# EAGLE library part MC14071BCP (library User-Submitted)
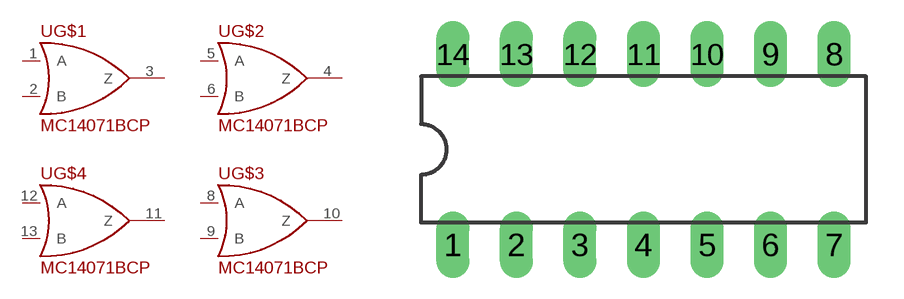
[diagram p26: symbol with the pads of DIL14; footprint DIL14]

Designator prefix -; gates G$1=MC14071B G$2=MC14071B G$3=MC14071B G$4=MC14071B

## MC14071BCP  [DIL14]
1  G$1:A  in
2  G$1:B  in
3  G$1:Z  out
4  G$2:Z  out
5  G$2:A  in
6  G$2:B  in
8  G$3:A  in
9  G$3:B  in
10  G$3:Z  out
11  G$4:Z  out
12  G$4:A  in
13  G$4:B  in

## Footprint DIL14 (pad centres in mm)
Dual In Line Package
drill 0.813 long: 1 -7.62,-3.81; 2 -5.08,-3.81; 3 -2.54,-3.81; 4 0,-3.81; 5 2.54,-3.81; 6 5.08,-3.81; 7 7.62,-3.81; 8 7.62,3.81; 9 5.08,3.81; 10 2.54,3.81; 11 0,3.81; 12 -2.54,3.81; 13 -5.08,3.81; 14 -7.62,3.81